# Altium footprint library Inductor_IHSM4825ER_2-PIN.PcbLib: 1 footprints
Each footprint in its own frame and in the unit in brackets; x right, y up, seen from the top. Pads: shape width x height; smd on the part's side, far side on the other; paste and mask are expansions set on the pad; w line width, h text height; cw(c..) or ccw(c..) is an arc to the next point about the centre after c.
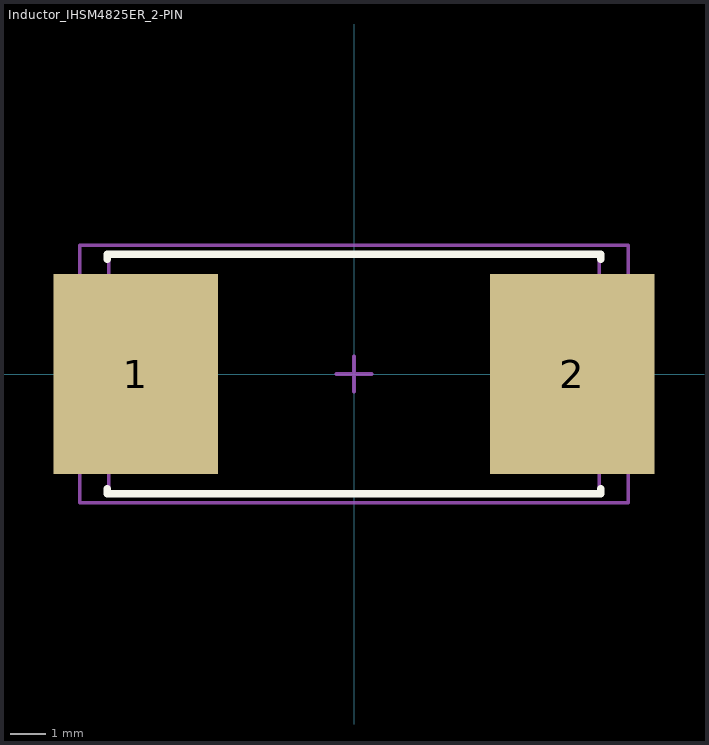
[diagram p0: the footprint, top view; thin cyan lines are the x and y axes]

## Inductor_IHSM4825ER_2-PIN [mm]
height 5.72
pads (2):
  rect 4.6x5.6 smd: 1(-6.1,0) 2(6.1,0)
Top Overlay:
  lines w0.2: -6.9,-3.2 -6.9,-3.35 6.9,-3.35 6.9,-3.2 ; -6.9,3.2 -6.9,3.35 6.9,3.35 6.9,3.2
Mechanical 13:
  lines w0.1: -6.86,-3.325 -6.86,3.325 6.86,3.325 6.86,-3.325 -6.86,-3.325
Mechanical 15:
  lines w0.1: -0.5,0 0.5,0 ; 0,-0.5 0,0.5 ; -7.675,-3.6 -7.675,3.6 7.675,3.6 7.675,-3.6 -7.675,-3.6
3D body: height 5.72, standoff 0, extent -6.86,-3.325 6.86,3.325